# Altium footprint library ESP32_ATMEL.PcbLib: 5 footprints
Each footprint in its own frame and in the unit in brackets; x right, y up, seen from the top. Pads: shape width x height; smd on the part's side, far side on the other; paste and mask are expansions set on the pad; w line width, h text height; cw(c..) or ccw(c..) is an arc to the next point about the centre after c.
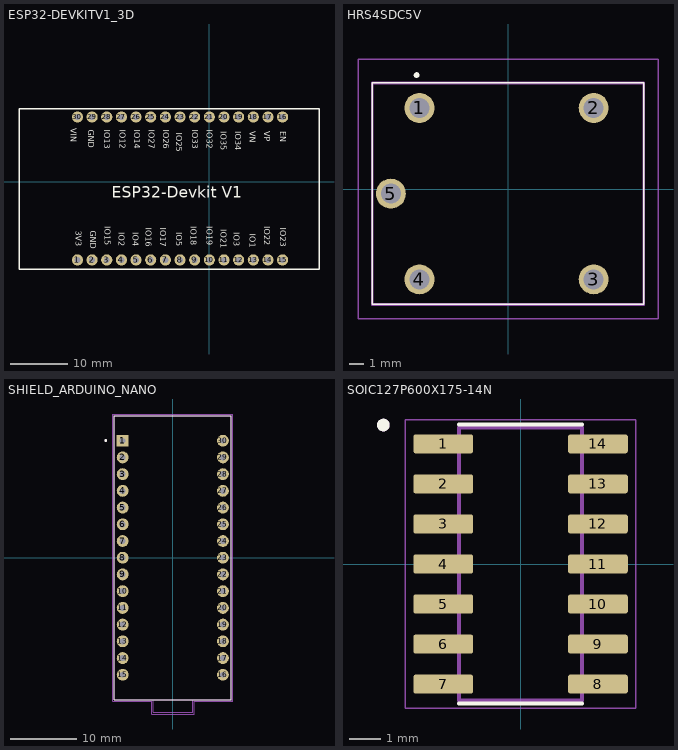
[diagram p0: the footprints below, top view; thin cyan lines are the x and y axes]

## ESP32-DEVKITV1_3D [mm]
pads (30):
  round 1.93 hole 1: 1(-22.87,-13.54) 2(-20.33,-13.54) 3(-17.79,-13.54) 4(-15.25,-13.54) 5(-12.71,-13.54) 6(-10.17,-13.54) 7(-7.63,-13.54) 8(-5.09,-13.54) 9(-2.55,-13.54) 10(-0.01,-13.54) 11(2.53,-13.54) 12(5.07,-13.54) 13(7.61,-13.54) 14(10.15,-13.54) 15(12.69,-13.54) 16(12.69,11.23) 17(10.15,11.23) 18(7.61,11.23) 19(5.07,11.23) 20(2.53,11.23) 21(-0.01,11.23) 22(-2.55,11.23) 23(-5.09,11.23) 24(-7.63,11.23) 25(-10.17,11.23) 26(-12.71,11.23) 27(-15.25,11.23) 28(-17.79,11.23) 29(-20.33,11.23) 30(-22.87,11.23)
Top Overlay:
  lines w0.254: -33,-15.2 -33,12.7 19,12.7 19,-15.2 -33,-15.2
  text "ESP32-Devkit V1" at -16.891,-2.794 h1.93
  text "IO12" at -15.5,9 h1.02
  text "IO13" at -18.25,9 h1.02
  text "GND" at -21,9 h1.02
  text "VIN" at -24,9.25 h1.02
  text "IO23" at 12.25,-8 h1.02
  text "IO22" at 9.5,-7.75 h1.02
  text "IO1" at 7,-9 h1.02
  text "IO3" at 4.25,-8.75 h1.02
  text "IO21" at 2,-8.25 h1.02
  text "IO19" at -0.5,-7.75 h1.02
  text "IO18" at -3.25,-7.75 h1.02
  text "IO5" at -5.75,-8.75 h1.02
  text "IO17" at -8.5,-8 h1.02
  text "IO16" at -11,-8 h1.02
  text "IO4" at -13.25,-8.75 h1.02
  text "IO2" at -15.75,-8.75 h1.02
  text "IO15" at -18.161,-7.747 h1.02
  text "GND" at -20.676,-8.479 h1.02
  text "3V3" at -23.176,-8.479 h1.02
  text "EN" at 12.25,8.75 h1.02
  text "VP" at 9.5,8.75 h1.02
  text "VN" at 7,8.75 h1.02
  text "IO34" at 4.5,8.75 h1.02
  text "IO35" at 2,8.75 h1.02
  text "IO32" at -0.5,9 h1.02
  text "IO33" at -3,9 h1.02
  text "IO25" at -5.75,8.5 h1.02
  text "IO26" at -8,9 h1.02
  text "IO27" at -10.5,9 h1.02
  text "IO14" at -13,9 h1.02
Mechanical 13:
  text "ESP32-DEVKITV1" at 5,-17.24 h1.27
3D body: height 0.25, standoff 0, extent -24.715,-15 14.215,-12
3D body: height 0.25, standoff 0, extent -24.715,9.75 14.215,12.75
3D body "ESP-WROOM32.STEP": height 14.6, standoff 2.2, extent -32.695,-15.704 18.235,12.796
3D body "Female2.54MM1x15.step": height 8, standoff -3, extent -24.171,9.827 13.929,12.367
3D body "Female2.54MM1x15.step": height 8, standoff -3, extent -24.05,-15 14.05,-12.46

## HRS4SDC5V [mm]
pads (5):
  round 2.1 hole 1.4: 1(-6.2,5.675) 2(6,5.675) 3(6,-6.325) 4(-6.2,-6.325) 5(-8.2,-0.325)
Top Overlay:
  lines w0.1: -9.5,-8.075 -9.5,7.425 9.5,7.425 9.5,-8.075 -9.5,-8.075
  lines w0.2: -6.5,7.975 cw(c-6.4,7.975) -6.3,7.975 cw(c-6.4,7.975) -6.5,7.975
Mechanical 13:
  lines w0.2: -9.5,-8.075 9.5,-8.075 9.5,7.425 -9.5,7.425 -9.5,-8.075
Mechanical 15:
  lines w0.1: -10.5,-9.075 -10.5,9.075 10.5,9.075 10.5,-9.075 -10.5,-9.075
3D body "HRS4-S_DC5V.stp": height 16.1, standoff -5, extent -9.5,-8.075 9.5,7.425

## PCBComponent_1 [mil]

## SHIELD_ARDUINO_NANO [mm]
pads (30):
  rect 1.8x1.8 / inner round 1.8 / far side rect 1.8x1.8 hole 0.9: 1(-7.62,17.78)
  round 1.8 hole 0.9: 2(-7.62,15.24) 3(-7.62,12.7) 4(-7.62,10.16) 5(-7.62,7.62) 6(-7.62,5.08) 7(-7.62,2.54) 8(-7.62,0) 9(-7.62,-2.54) 10(-7.62,-5.08) 11(-7.62,-7.62) 12(-7.62,-10.16) 13(-7.62,-12.7) 14(-7.62,-15.24) 15(-7.62,-17.78) 16(7.62,-17.78) 17(7.62,-15.24) 18(7.62,-12.7) 19(7.62,-10.16) 20(7.62,-7.62) 21(7.62,-5.08) 22(7.62,-2.54) 23(7.62,0) 24(7.62,2.54) 25(7.62,5.08) 26(7.62,7.62) 27(7.62,10.16) 28(7.62,12.7) 29(7.62,15.24) 30(7.62,17.78)
Top Overlay:
  circle w0.2: c-10.2,17.8 r0.1
  lines w0.127: -8.89,-21.59 -8.89,21.59 8.89,21.59 8.89,-21.59 -8.89,-21.59
Mechanical 13:
  circle w0.2: c-10.2,17.8 r0.1
  lines w0.127: -2.97,-21.59 -2.97,-23.495 3,-23.495 3,-21.59 ; -2.97,-21.59 -8.89,-21.59 -8.89,21.59 8.89,21.59 8.89,-21.59 3,-21.59 ; -2.97,-21.59 3,-21.59
Mechanical 15:
  lines w0.05: -9.14,-21.84 -3.22,-21.84 -3.22,-23.745 3.25,-23.745 3.25,-21.84 9.14,-21.84 9.14,21.84 -9.14,21.84 -9.14,-21.84
3D body "step_temp.STEP": height 12.6, standoff -6, extent -9,-21.6 9,23.4

## SOIC127P600X175-14N [mm]
pads (14):
  rrect25% 1.9x0.6 smd: 1(-2.455,3.81) 2(-2.455,2.54) 3(-2.455,1.27) 4(-2.455,0) 5(-2.455,-1.27) 6(-2.455,-2.54) 7(-2.455,-3.81) 8(2.455,-3.81) 9(2.455,-2.54) 10(2.455,-1.27) 11(2.455,0) 12(2.455,1.27) 13(2.455,2.54) 14(2.455,3.81)
Top Overlay:
  circle w0.2: c-4.355,4.41 r0.1
  lines w0.127: -1.95,-4.43 1.95,-4.43 ; -1.95,4.43 1.95,4.43
Mechanical 13:
  circle w0.2: c-4.355,4.41 r0.1
  lines w0.127: -1.95,-4.325 -1.95,4.325 1.95,4.325 1.95,-4.325 -1.95,-4.325
Mechanical 15:
  lines w0.05: -3.655,-4.575 -3.655,4.575 3.655,4.575 3.655,-4.575 -3.655,-4.575
3D body "MCP42010-I_SL.STEP": height 1.75, standoff 0, extent -2.947,-4.323 3.048,4.323